# EAGLE library part PT2399 (library ic)
PT2399: Echo processor (Princeton Technology)
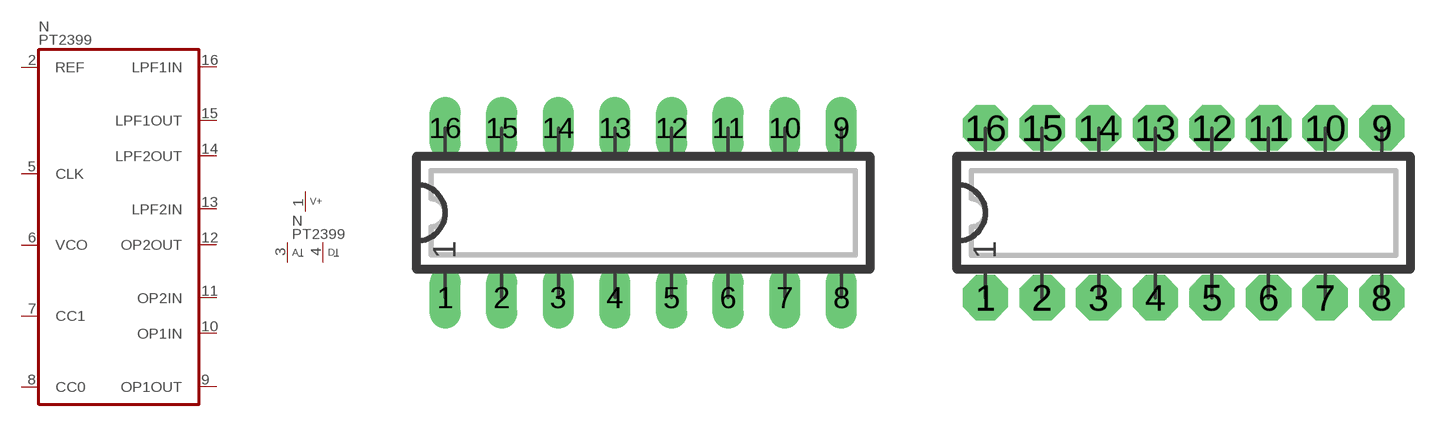
[diagram p113: symbol with the pads of DIP16L; footprints DIP16L, DIP16N]

Designator prefix N; gates A=PT2399 P=V+2GND2

## PT2399  [DIP16L]
1  P:V+  pwr
2  A:REF
3  P:AGND  pwr
4  P:DGND  pwr
5  A:CLK  out
6  A:VCO  in
7  A:CC1
8  A:CC0
9  A:OP1OUT  out
10  A:OP1IN  in
11  A:OP2IN  in
12  A:OP2OUT  out
13  A:LPF2IN  in
14  A:LPF2OUT  out
15  A:LPF1OUT  out
16  A:LPF1IN  in

## PT2399N  [DIP16N]
Pads as for DIP16L

## PT2399L  [DIP16L]
Pads as for DIP16L

## PT2399R  [DIP16R]
Pads as for DIP16L

## Footprint DIP16L (pad centres in mm)
DIP-16, long pads Standard IC package, 16 pins
drill 0.813 pad 1.397 long: 1 -8.89,-3.81; 2 -6.35,-3.81; 3 -3.81,-3.81; 4 -1.27,-3.81; 5 1.27,-3.81; 6 3.81,-3.81; 7 6.35,-3.81; 8 8.89,-3.81; 9 8.89,3.81; 10 6.35,3.81; 11 3.81,3.81; 12 1.27,3.81; 13 -1.27,3.81; 14 -3.81,3.81; 15 -6.35,3.81; 16 -8.89,3.81

## Footprint DIP16N (pad centres in mm)
DIP-16 Standard IC package, 16 pins
drill 0.813 pad 2.032 octagon: 1 -8.89,-3.81; 2 -6.35,-3.81; 3 -3.81,-3.81; 4 -1.27,-3.81; 5 1.27,-3.81; 6 3.81,-3.81; 7 6.35,-3.81; 8 8.89,-3.81; 9 8.89,3.81; 10 6.35,3.81; 11 3.81,3.81; 12 1.27,3.81; 13 -1.27,3.81; 14 -3.81,3.81; 15 -6.35,3.81; 16 -8.89,3.81

## Footprint DIP16R (pad centres in mm)
DIP-16, reduced pads Standard IC package, 16 pins
drill 0.813 pad 1.397 square: 1 -8.89,-3.81; 2 -6.35,-3.81; 3 -3.81,-3.81; 4 -1.27,-3.81; 5 1.27,-3.81; 6 3.81,-3.81; 7 6.35,-3.81; 8 8.89,-3.81; 9 8.89,3.81; 10 6.35,3.81; 11 3.81,3.81; 12 1.27,3.81; 13 -1.27,3.81; 14 -3.81,3.81; 15 -6.35,3.81; 16 -8.89,3.81